# Altium integrated library ST Video Picture-in-Picture Processor.IntLib: 1 symbol
Pins are listed as number, name and electrical type; pins without a type are passive.

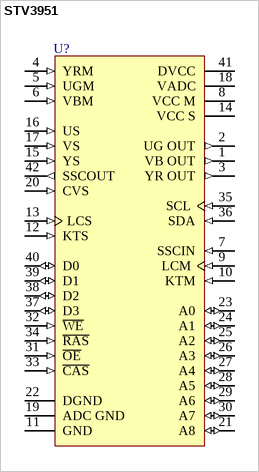
[diagram p0: symbol STV3951]

## STV3951
designator U?
Multi Picture-in-Picture Processor; Published: 24-Aug-2001; LatestRevisionDate: 6-Jun-2005; LatestRevisionNote: Stylized 3D Model Added.; DatasheetDocument: Apr-1995; PackageDocument: Oct-2003; PackageReference: PSDIP42; Publisher: Altium Limited; ComponentLink1Description: Manufacturer Link; ComponentLink1URL: http://www.st.com/
footprint PSDIP42 (DIP, Plastic Shrink; 42 Leads; Row Spacing 15.24 mm; Pitch 1.78 mm)
3D model PSDIP42 (DIP, Plastic Shrink; 42 Leads; Row Spacing 15.24 mm; Pitch 1.78 mm)
pins: 1 VB OUT (out), 2 UG OUT (out), 3 YR OUT (out), 4 YRM (in), 5 UGM (in), 6 VBM (in), 7 SSCIN (in), 8 VCC M (power), 9 LCM (in), 10 KTM (in), 11 GND (power), 12 KTS (in), 13 LCS (in), 14 VCC S (power), 15 YS (in), 16 US (in), 17 VS (in), 18 VADC (power), 19 ADC GND (power), 20 CVS (in), 21 A8 (io), 22 DGND (power), 23 A0 (io), 24 A1 (io), 25 A2 (io), 26 A3 (io), 27 A4 (io), 28 A5 (io), 29 A6 (io), 30 A7 (io), 31 ~{OE} (in), 32 ~{WE} (in), 33 ~{CAS} (in), 34 ~{RAS} (in), 35 SCL (in), 36 SDA (in), 37 D3 (io), 38 D2 (io), 39 D1 (io), 40 D0 (io), 41 DVCC (power), 42 SSCOUT (out)